# Altium footprint library PcbLib1.PcbLib: 1 footprints
Each footprint in its own frame and in the unit in brackets; x right, y up, seen from the top. Pads: shape width x height; smd on the part's side, far side on the other; paste and mask are expansions set on the pad; w line width, h text height; cw(c..) or ccw(c..) is an arc to the next point about the centre after c.
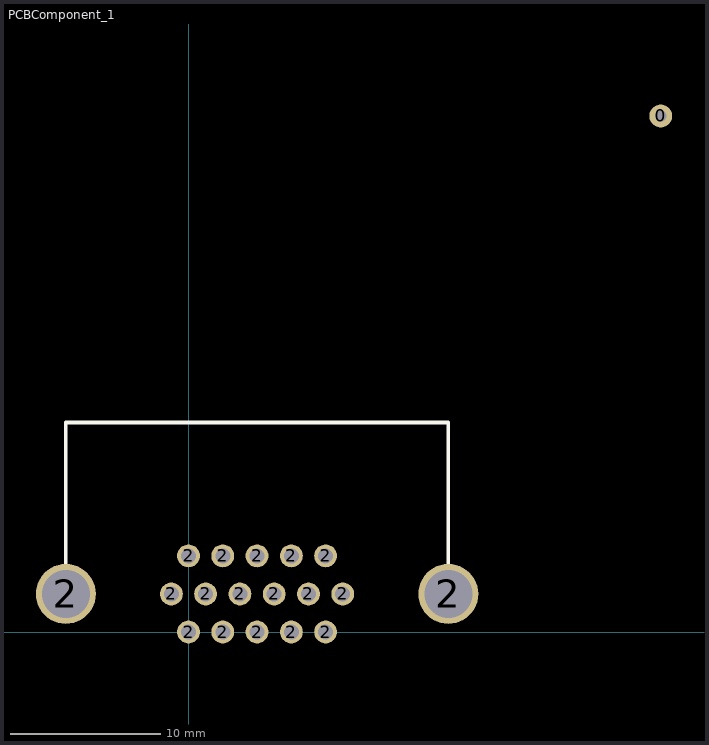
[diagram p0: the footprint, top view; thin cyan lines are the x and y axes]

## PCBComponent_1 [mil]
pads (19):
  round 60 hole 30: 0(1240,1355)
  round 157.48 hole 125.98: 2(-322.17,100) 2(682.17,100)
  round 60 hole 39.37: 2(-45,100) 2(0,0) 2(0,200) 2(45,100) 2(90,0) 2(90,200) 2(135,100) 2(180,0) 2(180,200) 2(225,100) 2(270,0) 2(270,200) 2(315,100) 2(360,0) 2(360,200) 2(405,100)
Top Overlay:
  lines w10: -322.17,100 -322.17,550 682.17,550 682.17,100